# Altium footprint library CON1_70-9296-001-103-006.PcbLib: 1 footprints
Each footprint in its own frame and in the unit in brackets; x right, y up, seen from the top. Pads: shape width x height; smd on the part's side, far side on the other; paste and mask are expansions set on the pad; w line width, h text height; cw(c..) or ccw(c..) is an arc to the next point about the centre after c.
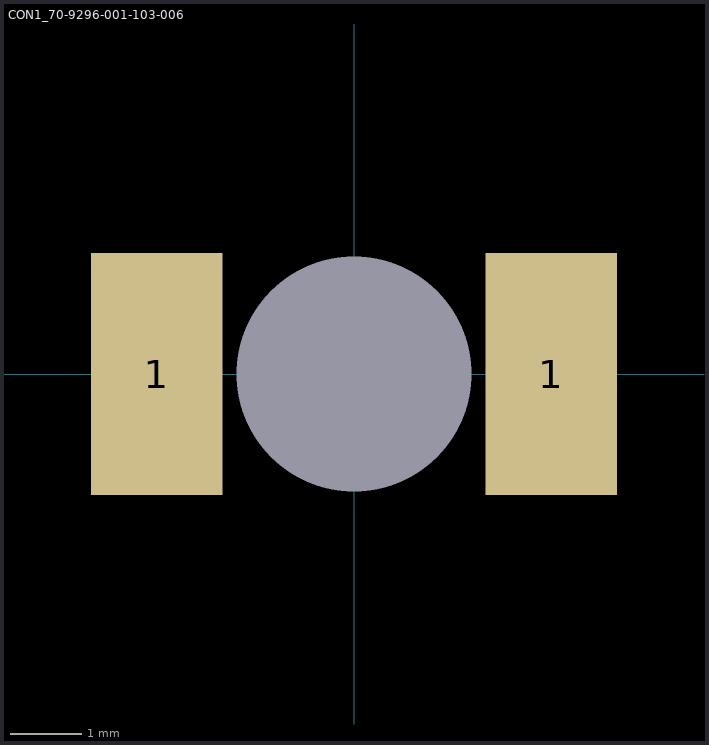
[diagram p0: the footprint, top view; thin cyan lines are the x and y axes]

## CON1_70-9296-001-103-006 [mm]
pads (3):
  rect 1.85x3.4 smd: 1(-2.775,0) 1(2.775,0)
  round 0 hole 3.302 unplated: 1(0,0)
3D body "AVX Interconnect-70-9296-001-103-006.STEP": height 3.77, standoff 0, extent -3.5,-1.75 3.5,1.75